# Altium schematic symbol library MCU_Microchip_AVR.SchLib: 19 symbols
Pins are listed as number, name and electrical type; pins without a type are passive.

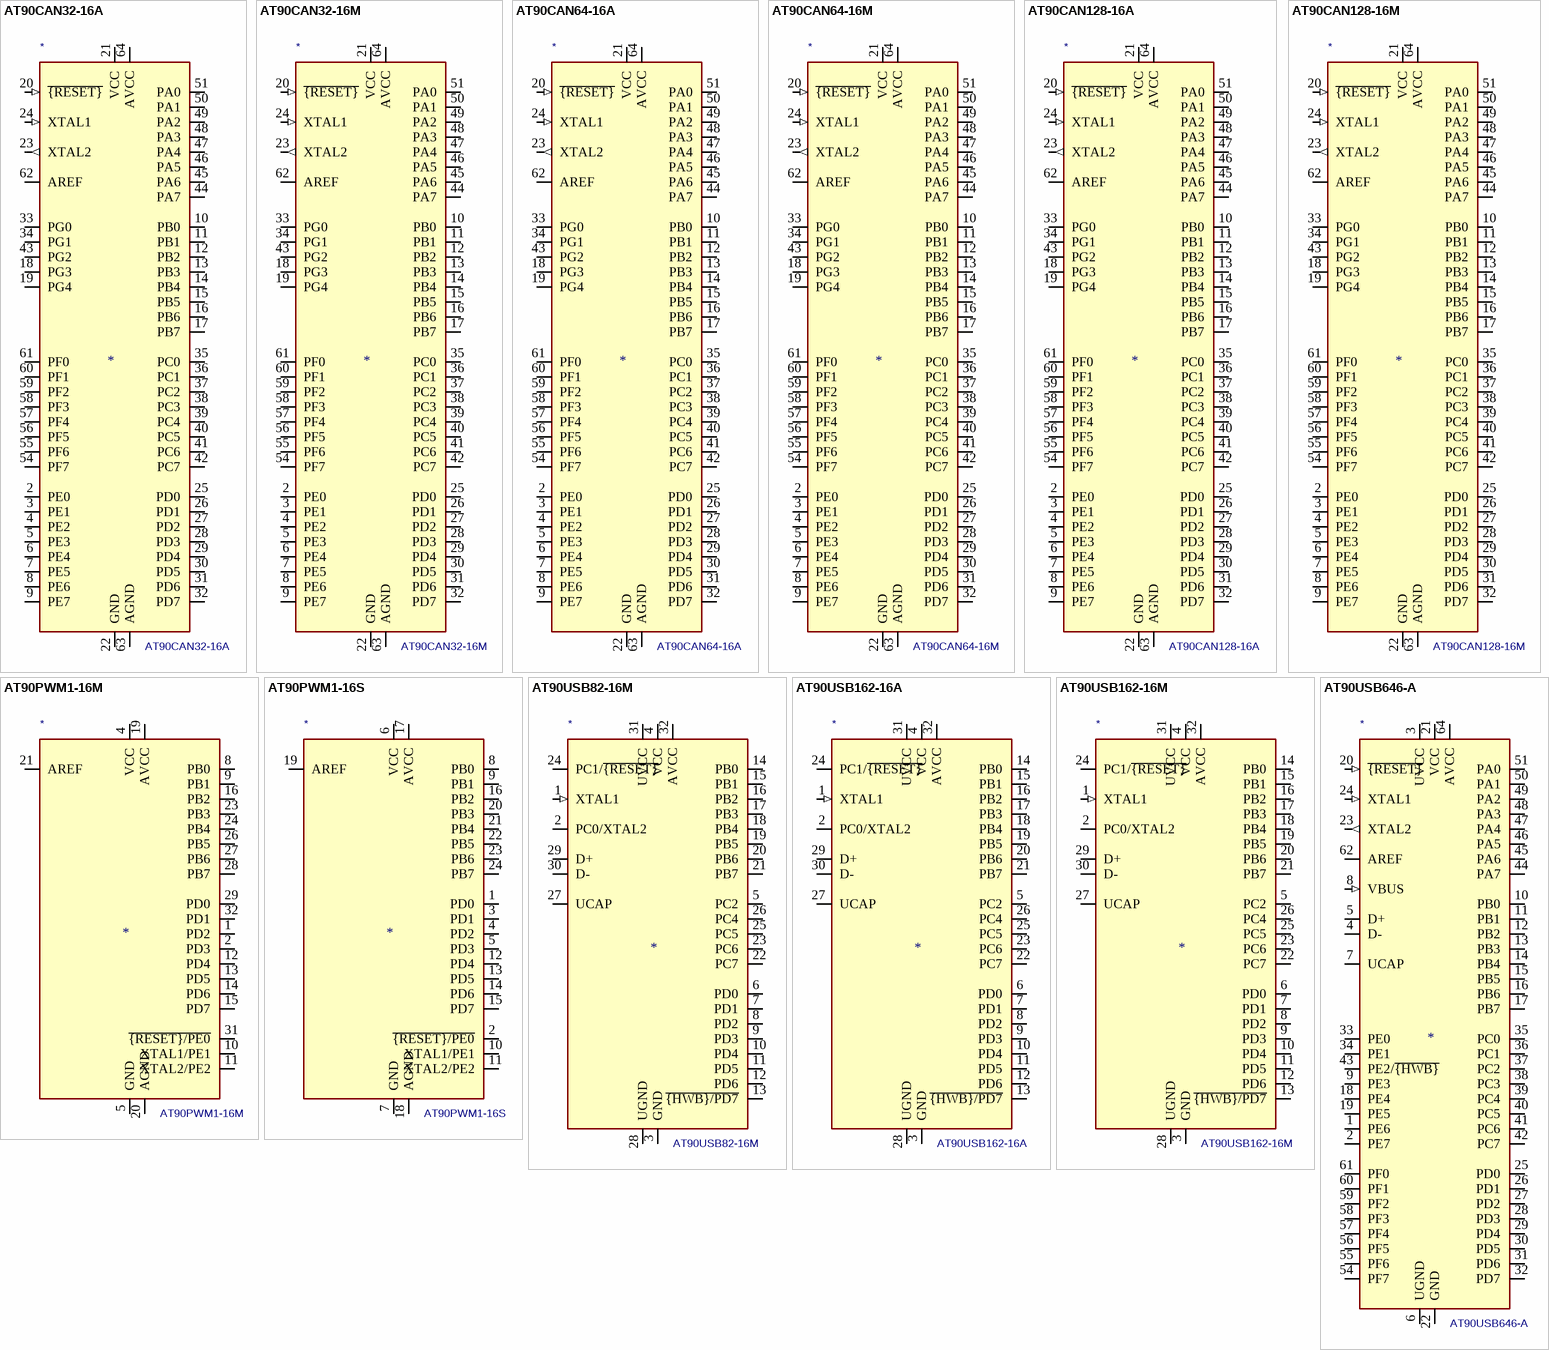
[diagram p0: symbols AT90CAN32-16A to AT90USB646-A]

## AT90CAN32-16A
designator *  value AT90CAN32-16A
ki_keywords: AVR 8bit Microcontroller MegaAVR; ki_description: 16MHz, 32kB Flash, 2kB SRAM, 1kB EEPROM, JTAG, CAN, TQFP-64; ki_fp_filters: TQFP*14x14mm*P0.8mm*; Footprint: Package_QFP:TQFP-64_14x14mm_P0.8mm; Supplier: http://ww1.microchip.com/downloads/en/DeviceDoc/doc7679.pdf
footprint TQFP-64_14x14mm_P0.8mm
pins: 1 NC (in) hidden, 2 PE0 (io), 3 PE1 (io), 4 PE2 (io), 5 PE3 (io), 6 PE4 (io), 7 PE5 (io), 8 PE6 (io), 9 PE7 (io), 10 PB0 (io), 11 PB1 (io), 12 PB2 (io), 13 PB3 (io), 14 PB4 (io), 15 PB5 (io), 16 PB6 (io), 17 PB7 (io), 18 PG3 (io), 19 PG4 (io), 20 ~{{RESET}} (in), 21 VCC (power), 22 GND (power), 23 XTAL2 (out), 24 XTAL1 (in), 25 PD0 (io), 26 PD1 (io), 27 PD2 (io), 28 PD3 (io), 29 PD4 (io), 30 PD5 (io), 31 PD6 (io), 32 PD7 (io), 33 PG0 (io), 34 PG1 (io), 35 PC0 (io), 36 PC1 (io), 37 PC2 (io), 38 PC3 (io), 39 PC4 (io), 40 PC5 (io), 41 PC6 (io), 42 PC7 (io), 43 PG2 (io), 44 PA7 (io), 45 PA6 (io), 46 PA5 (io), 47 PA4 (io), 48 PA3 (io), 49 PA2 (io), 50 PA1 (io), 51 PA0 (io), 52 VCC hidden, 53 GND hidden, 54 PF7 (io), 55 PF6 (io), 56 PF5 (io), 57 PF4 (io), 58 PF3 (io), 59 PF2 (io), 60 PF1 (io), 61 PF0 (io), 62 AREF, 63 AGND (power), 64 AVCC (power)

## AT90CAN32-16M
designator *  value AT90CAN32-16M
ki_keywords: AVR 8bit Microcontroller MegaAVR; ki_description: 16MHz, 32kB Flash, 2kB SRAM, 1kB EEPROM, JTAG, CAN, QFN-64; ki_fp_filters: QFN*1EP*9x9mm*P0.5mm*; Footprint: Package_DFN_QFN:QFN-64-1EP_9x9mm_P0.5mm_EP7.5x7.5mm; Supplier: http://ww1.microchip.com/downloads/en/DeviceDoc/doc7679.pdf
footprint QFN-64-1EP_9x9mm_P0.5mm_EP7.5x7.5mm
pins: 1 NC (in) hidden, 2 PE0 (io), 3 PE1 (io), 4 PE2 (io), 5 PE3 (io), 6 PE4 (io), 7 PE5 (io), 8 PE6 (io), 9 PE7 (io), 10 PB0 (io), 11 PB1 (io), 12 PB2 (io), 13 PB3 (io), 14 PB4 (io), 15 PB5 (io), 16 PB6 (io), 17 PB7 (io), 18 PG3 (io), 19 PG4 (io), 20 ~{{RESET}} (in), 21 VCC (power), 22 GND (power), 23 XTAL2 (out), 24 XTAL1 (in), 25 PD0 (io), 26 PD1 (io), 27 PD2 (io), 28 PD3 (io), 29 PD4 (io), 30 PD5 (io), 31 PD6 (io), 32 PD7 (io), 33 PG0 (io), 34 PG1 (io), 35 PC0 (io), 36 PC1 (io), 37 PC2 (io), 38 PC3 (io), 39 PC4 (io), 40 PC5 (io), 41 PC6 (io), 42 PC7 (io), 43 PG2 (io), 44 PA7 (io), 45 PA6 (io), 46 PA5 (io), 47 PA4 (io), 48 PA3 (io), 49 PA2 (io), 50 PA1 (io), 51 PA0 (io), 52 VCC hidden, 53 GND hidden, 54 PF7 (io), 55 PF6 (io), 56 PF5 (io), 57 PF4 (io), 58 PF3 (io), 59 PF2 (io), 60 PF1 (io), 61 PF0 (io), 62 AREF, 63 AGND (power), 64 AVCC (power), 65 GND hidden

## AT90CAN64-16A
designator *  value AT90CAN64-16A
ki_keywords: AVR 8bit Microcontroller MegaAVR; ki_description: 16MHz, 64kB Flash, 4kB SRAM, 2kB EEPROM, JTAG, CAN, TQFP-64; ki_fp_filters: TQFP*14x14mm*P0.8mm*; Footprint: Package_QFP:TQFP-64_14x14mm_P0.8mm; Supplier: http://ww1.microchip.com/downloads/en/DeviceDoc/doc7679.pdf
footprint TQFP-64_14x14mm_P0.8mm
pins: 1 NC (in) hidden, 2 PE0 (io), 3 PE1 (io), 4 PE2 (io), 5 PE3 (io), 6 PE4 (io), 7 PE5 (io), 8 PE6 (io), 9 PE7 (io), 10 PB0 (io), 11 PB1 (io), 12 PB2 (io), 13 PB3 (io), 14 PB4 (io), 15 PB5 (io), 16 PB6 (io), 17 PB7 (io), 18 PG3 (io), 19 PG4 (io), 20 ~{{RESET}} (in), 21 VCC (power), 22 GND (power), 23 XTAL2 (out), 24 XTAL1 (in), 25 PD0 (io), 26 PD1 (io), 27 PD2 (io), 28 PD3 (io), 29 PD4 (io), 30 PD5 (io), 31 PD6 (io), 32 PD7 (io), 33 PG0 (io), 34 PG1 (io), 35 PC0 (io), 36 PC1 (io), 37 PC2 (io), 38 PC3 (io), 39 PC4 (io), 40 PC5 (io), 41 PC6 (io), 42 PC7 (io), 43 PG2 (io), 44 PA7 (io), 45 PA6 (io), 46 PA5 (io), 47 PA4 (io), 48 PA3 (io), 49 PA2 (io), 50 PA1 (io), 51 PA0 (io), 52 VCC hidden, 53 GND hidden, 54 PF7 (io), 55 PF6 (io), 56 PF5 (io), 57 PF4 (io), 58 PF3 (io), 59 PF2 (io), 60 PF1 (io), 61 PF0 (io), 62 AREF, 63 AGND (power), 64 AVCC (power)

## AT90CAN64-16M
designator *  value AT90CAN64-16M
ki_keywords: AVR 8bit Microcontroller MegaAVR; ki_description: 16MHz, 64kB Flash, 4kB SRAM, 2kB EEPROM, JTAG, CAN, QFN-64; ki_fp_filters: QFN*1EP*9x9mm*P0.5mm*; Footprint: Package_DFN_QFN:QFN-64-1EP_9x9mm_P0.5mm_EP7.5x7.5mm; Supplier: http://ww1.microchip.com/downloads/en/DeviceDoc/doc7679.pdf
footprint QFN-64-1EP_9x9mm_P0.5mm_EP7.5x7.5mm
pins: 1 NC (in) hidden, 2 PE0 (io), 3 PE1 (io), 4 PE2 (io), 5 PE3 (io), 6 PE4 (io), 7 PE5 (io), 8 PE6 (io), 9 PE7 (io), 10 PB0 (io), 11 PB1 (io), 12 PB2 (io), 13 PB3 (io), 14 PB4 (io), 15 PB5 (io), 16 PB6 (io), 17 PB7 (io), 18 PG3 (io), 19 PG4 (io), 20 ~{{RESET}} (in), 21 VCC (power), 22 GND (power), 23 XTAL2 (out), 24 XTAL1 (in), 25 PD0 (io), 26 PD1 (io), 27 PD2 (io), 28 PD3 (io), 29 PD4 (io), 30 PD5 (io), 31 PD6 (io), 32 PD7 (io), 33 PG0 (io), 34 PG1 (io), 35 PC0 (io), 36 PC1 (io), 37 PC2 (io), 38 PC3 (io), 39 PC4 (io), 40 PC5 (io), 41 PC6 (io), 42 PC7 (io), 43 PG2 (io), 44 PA7 (io), 45 PA6 (io), 46 PA5 (io), 47 PA4 (io), 48 PA3 (io), 49 PA2 (io), 50 PA1 (io), 51 PA0 (io), 52 VCC hidden, 53 GND hidden, 54 PF7 (io), 55 PF6 (io), 56 PF5 (io), 57 PF4 (io), 58 PF3 (io), 59 PF2 (io), 60 PF1 (io), 61 PF0 (io), 62 AREF, 63 AGND (power), 64 AVCC (power), 65 GND hidden

## AT90CAN128-16A
designator *  value AT90CAN128-16A
ki_keywords: AVR 8bit Microcontroller MegaAVR; ki_description: 16MHz, 128kB Flash, 4kB SRAM, 4kB EEPROM, JTAG, CAN, TQFP-64; ki_fp_filters: TQFP*14x14mm*P0.8mm*; Footprint: Package_QFP:TQFP-64_14x14mm_P0.8mm; Supplier: http://ww1.microchip.com/downloads/en/DeviceDoc/doc7679.pdf
footprint TQFP-64_14x14mm_P0.8mm
pins: 1 NC (in) hidden, 2 PE0 (io), 3 PE1 (io), 4 PE2 (io), 5 PE3 (io), 6 PE4 (io), 7 PE5 (io), 8 PE6 (io), 9 PE7 (io), 10 PB0 (io), 11 PB1 (io), 12 PB2 (io), 13 PB3 (io), 14 PB4 (io), 15 PB5 (io), 16 PB6 (io), 17 PB7 (io), 18 PG3 (io), 19 PG4 (io), 20 ~{{RESET}} (in), 21 VCC (power), 22 GND (power), 23 XTAL2 (out), 24 XTAL1 (in), 25 PD0 (io), 26 PD1 (io), 27 PD2 (io), 28 PD3 (io), 29 PD4 (io), 30 PD5 (io), 31 PD6 (io), 32 PD7 (io), 33 PG0 (io), 34 PG1 (io), 35 PC0 (io), 36 PC1 (io), 37 PC2 (io), 38 PC3 (io), 39 PC4 (io), 40 PC5 (io), 41 PC6 (io), 42 PC7 (io), 43 PG2 (io), 44 PA7 (io), 45 PA6 (io), 46 PA5 (io), 47 PA4 (io), 48 PA3 (io), 49 PA2 (io), 50 PA1 (io), 51 PA0 (io), 52 VCC hidden, 53 GND hidden, 54 PF7 (io), 55 PF6 (io), 56 PF5 (io), 57 PF4 (io), 58 PF3 (io), 59 PF2 (io), 60 PF1 (io), 61 PF0 (io), 62 AREF, 63 AGND (power), 64 AVCC (power)

## AT90CAN128-16M
designator *  value AT90CAN128-16M
ki_keywords: AVR 8bit Microcontroller MegaAVR; ki_description: 16MHz, 128kB Flash, 4kB SRAM, 4kB EEPROM, JTAG, CAN, QFN-64; ki_fp_filters: QFN*1EP*9x9mm*P0.5mm*; Footprint: Package_DFN_QFN:QFN-64-1EP_9x9mm_P0.5mm_EP7.5x7.5mm; Supplier: http://ww1.microchip.com/downloads/en/DeviceDoc/doc7679.pdf
footprint QFN-64-1EP_9x9mm_P0.5mm_EP7.5x7.5mm
pins: 1 NC (in) hidden, 2 PE0 (io), 3 PE1 (io), 4 PE2 (io), 5 PE3 (io), 6 PE4 (io), 7 PE5 (io), 8 PE6 (io), 9 PE7 (io), 10 PB0 (io), 11 PB1 (io), 12 PB2 (io), 13 PB3 (io), 14 PB4 (io), 15 PB5 (io), 16 PB6 (io), 17 PB7 (io), 18 PG3 (io), 19 PG4 (io), 20 ~{{RESET}} (in), 21 VCC (power), 22 GND (power), 23 XTAL2 (out), 24 XTAL1 (in), 25 PD0 (io), 26 PD1 (io), 27 PD2 (io), 28 PD3 (io), 29 PD4 (io), 30 PD5 (io), 31 PD6 (io), 32 PD7 (io), 33 PG0 (io), 34 PG1 (io), 35 PC0 (io), 36 PC1 (io), 37 PC2 (io), 38 PC3 (io), 39 PC4 (io), 40 PC5 (io), 41 PC6 (io), 42 PC7 (io), 43 PG2 (io), 44 PA7 (io), 45 PA6 (io), 46 PA5 (io), 47 PA4 (io), 48 PA3 (io), 49 PA2 (io), 50 PA1 (io), 51 PA0 (io), 52 VCC hidden, 53 GND hidden, 54 PF7 (io), 55 PF6 (io), 56 PF5 (io), 57 PF4 (io), 58 PF3 (io), 59 PF2 (io), 60 PF1 (io), 61 PF0 (io), 62 AREF, 63 AGND (power), 64 AVCC (power), 65 GND hidden

## AT90PWM1-16M
designator *  value AT90PWM1-16M
ki_keywords: AVR 8bit Microcontroller LightingAVR PWM; ki_description: 16MHz, 8kB Flash, 512B SRAM, 512B EEPROM, QFN-32; ki_fp_filters: QFN*1EP*7x7mm*P0.65mm*; Footprint: Package_DFN_QFN:QFN-32-1EP_7x7mm_P0.65mm_EP4.65x4.65mm; Supplier: http://ww1.microchip.com/downloads/en/DeviceDoc/doc4378.pdf
footprint QFN-32-1EP_7x7mm_P0.65mm_EP4.65x4.65mm
pins: 1 PD2 (io), 2 PD3 (io), 3 NC (in) hidden, 4 VCC (power), 5 GND (power), 6 NC (in) hidden, 7 NC (in) hidden, 8 PB0 (io), 9 PB1 (io), 10 XTAL1/PE1 (io), 11 XTAL2/PE2 (io), 12 PD4 (io), 13 PD5 (io), 14 PD6 (io), 15 PD7 (io), 16 PB2 (io), 17 NC (in) hidden, 18 NC (in) hidden, 19 AVCC (power), 20 AGND (power), 21 AREF, 22 NC (in) hidden, 23 PB3 (io), 24 PB4 (io), 25 NC (in) hidden, 26 PB5 (io), 27 PB6 (io), 28 PB7 (io), 29 PD0 (io), 30 NC (in) hidden, 31 ~{{RESET}/PE0} (io), 32 PD1 (io), 33 GND hidden

## AT90PWM1-16S
designator *  value AT90PWM1-16S
ki_keywords: AVR 8bit Microcontroller LightingAVR PWM; ki_description: 16MHz, 8kB Flash, 512B SRAM, 512B EEPROM, SOIC-24; ki_fp_filters: SOIC*7.5x15.4mm*P1.27mm*; Footprint: Package_SO:SOIC-24W_7.5x15.4mm_P1.27mm; Supplier: http://ww1.microchip.com/downloads/en/DeviceDoc/doc4378.pdf
footprint SOIC-24W_7.5x15.4mm_P1.27mm
pins: 1 PD0 (io), 2 ~{{RESET}/PE0} (io), 3 PD1 (io), 4 PD2 (io), 5 PD3 (io), 6 VCC (power), 7 GND (power), 8 PB0 (io), 9 PB1 (io), 10 XTAL1/PE1 (io), 11 XTAL2/PE2 (io), 12 PD4 (io), 13 PD5 (io), 14 PD6 (io), 15 PD7 (io), 16 PB2 (io), 17 AVCC (power), 18 AGND (power), 19 AREF, 20 PB3 (io), 21 PB4 (io), 22 PB5 (io), 23 PB6 (io), 24 PB7 (io)

## AT90USB82-16M
designator *  value AT90USB82-16M
ki_keywords: AVR 8bit Microcontroller USB; ki_description: 16MHz, 8kB Flash, 512B SRAM, 512B EEPROM, USB 2.0, QFN-32; ki_fp_filters: QFN*1EP*5x5mm*P0.5mm*; Footprint: Package_DFN_QFN:QFN-32-1EP_5x5mm_P0.5mm_EP3.6x3.6mm; Supplier: http://ww1.microchip.com/downloads/en/DeviceDoc/doc7707.pdf
footprint QFN-32-1EP_5x5mm_P0.5mm_EP3.6x3.6mm
pins: 1 XTAL1 (in), 2 PC0/XTAL2 (io), 3 GND (power), 4 VCC (power), 5 PC2 (io), 6 PD0 (io), 7 PD1 (io), 8 PD2 (io), 9 PD3 (io), 10 PD4 (io), 11 PD5 (io), 12 PD6 (io), 13 ~{{HWB}/PD7} (io), 14 PB0 (io), 15 PB1 (io), 16 PB2 (io), 17 PB3 (io), 18 PB4 (io), 19 PB5 (io), 20 PB6 (io), 21 PB7 (io), 22 PC7 (io), 23 PC6 (io), 24 PC1/~{{RESET}} (io), 25 PC5 (io), 26 PC4 (io), 27 UCAP, 28 UGND (power), 29 D+ (io), 30 D- (io), 31 UVCC (power), 32 AVCC (power), 33 GND hidden

## AT90USB162-16A
designator *  value AT90USB162-16A
ki_keywords: AVR 8bit Microcontroller USB; ki_description: 16MHz, 16kB Flash, 512B SRAM, 512B EEPROM, USB 2.0, TQFP-32; ki_fp_filters: TQFP*7x7mm*P0.8mm*; Footprint: Package_QFP:TQFP-32_7x7mm_P0.8mm; Supplier: http://ww1.microchip.com/downloads/en/DeviceDoc/doc7707.pdf
footprint TQFP-32_7x7mm_P0.8mm
pins: 1 XTAL1 (in), 2 PC0/XTAL2 (io), 3 GND (power), 4 VCC (power), 5 PC2 (io), 6 PD0 (io), 7 PD1 (io), 8 PD2 (io), 9 PD3 (io), 10 PD4 (io), 11 PD5 (io), 12 PD6 (io), 13 ~{{HWB}/PD7} (io), 14 PB0 (io), 15 PB1 (io), 16 PB2 (io), 17 PB3 (io), 18 PB4 (io), 19 PB5 (io), 20 PB6 (io), 21 PB7 (io), 22 PC7 (io), 23 PC6 (io), 24 PC1/~{{RESET}} (io), 25 PC5 (io), 26 PC4 (io), 27 UCAP, 28 UGND (power), 29 D+ (io), 30 D- (io), 31 UVCC (power), 32 AVCC (power)

## AT90USB162-16M
designator *  value AT90USB162-16M
ki_keywords: AVR 8bit Microcontroller USB; ki_description: 16MHz, 16kB Flash, 512B SRAM, 512B EEPROM, USB 2.0, QFN-32; ki_fp_filters: QFN*1EP*5x5mm*P0.5mm*; Footprint: Package_DFN_QFN:QFN-32-1EP_5x5mm_P0.5mm_EP3.6x3.6mm; Supplier: http://ww1.microchip.com/downloads/en/DeviceDoc/doc7707.pdf
footprint QFN-32-1EP_5x5mm_P0.5mm_EP3.6x3.6mm
pins: 1 XTAL1 (in), 2 PC0/XTAL2 (io), 3 GND (power), 4 VCC (power), 5 PC2 (io), 6 PD0 (io), 7 PD1 (io), 8 PD2 (io), 9 PD3 (io), 10 PD4 (io), 11 PD5 (io), 12 PD6 (io), 13 ~{{HWB}/PD7} (io), 14 PB0 (io), 15 PB1 (io), 16 PB2 (io), 17 PB3 (io), 18 PB4 (io), 19 PB5 (io), 20 PB6 (io), 21 PB7 (io), 22 PC7 (io), 23 PC6 (io), 24 PC1/~{{RESET}} (io), 25 PC5 (io), 26 PC4 (io), 27 UCAP, 28 UGND (power), 29 D+ (io), 30 D- (io), 31 UVCC (power), 32 AVCC (power), 33 GND hidden

## AT90USB646-A
designator *  value AT90USB646-A
ki_keywords: AVR 8bit Microcontroller USB; ki_description: 16MHz, 64kB Flash, 4kB SRAM, 2kB EEPROM, USB 2.0, TQFP-64; ki_fp_filters: TQFP*14x14mm*P0.8mm*; Footprint: Package_QFP:TQFP-64_14x14mm_P0.8mm; Supplier: http://ww1.microchip.com/downloads/en/DeviceDoc/doc7593.pdf
footprint TQFP-64_14x14mm_P0.8mm
pins: 1 PE6 (io), 2 PE7 (io), 3 UVCC (power), 4 D- (io), 5 D+ (io), 6 UGND (power), 7 UCAP, 8 VBUS (in), 9 PE3 (io), 10 PB0 (io), 11 PB1 (io), 12 PB2 (io), 13 PB3 (io), 14 PB4 (io), 15 PB5 (io), 16 PB6 (io), 17 PB7 (io), 18 PE4 (io), 19 PE5 (io), 20 ~{{RESET}} (in), 21 VCC (power), 22 GND (power), 23 XTAL2 (out), 24 XTAL1 (in), 25 PD0 (io), 26 PD1 (io), 27 PD2 (io), 28 PD3 (io), 29 PD4 (io), 30 PD5 (io), 31 PD6 (io), 32 PD7 (io), 33 PE0 (io), 34 PE1 (io), 35 PC0 (io), 36 PC1 (io), 37 PC2 (io), 38 PC3 (io), 39 PC4 (io), 40 PC5 (io), 41 PC6 (io), 42 PC7 (io), 43 PE2/~{{HWB}} (io), 44 PA7 (io), 45 PA6 (io), 46 PA5 (io), 47 PA4 (io), 48 PA3 (io), 49 PA2 (io), 50 PA1 (io), 51 PA0 (io), 52 VCC hidden, 53 GND hidden, 54 PF7 (io), 55 PF6 (io), 56 PF5 (io), 57 PF4 (io), 58 PF3 (io), 59 PF2 (io), 60 PF1 (io), 61 PF0 (io), 62 AREF, 63 GND hidden, 64 AVCC (power)

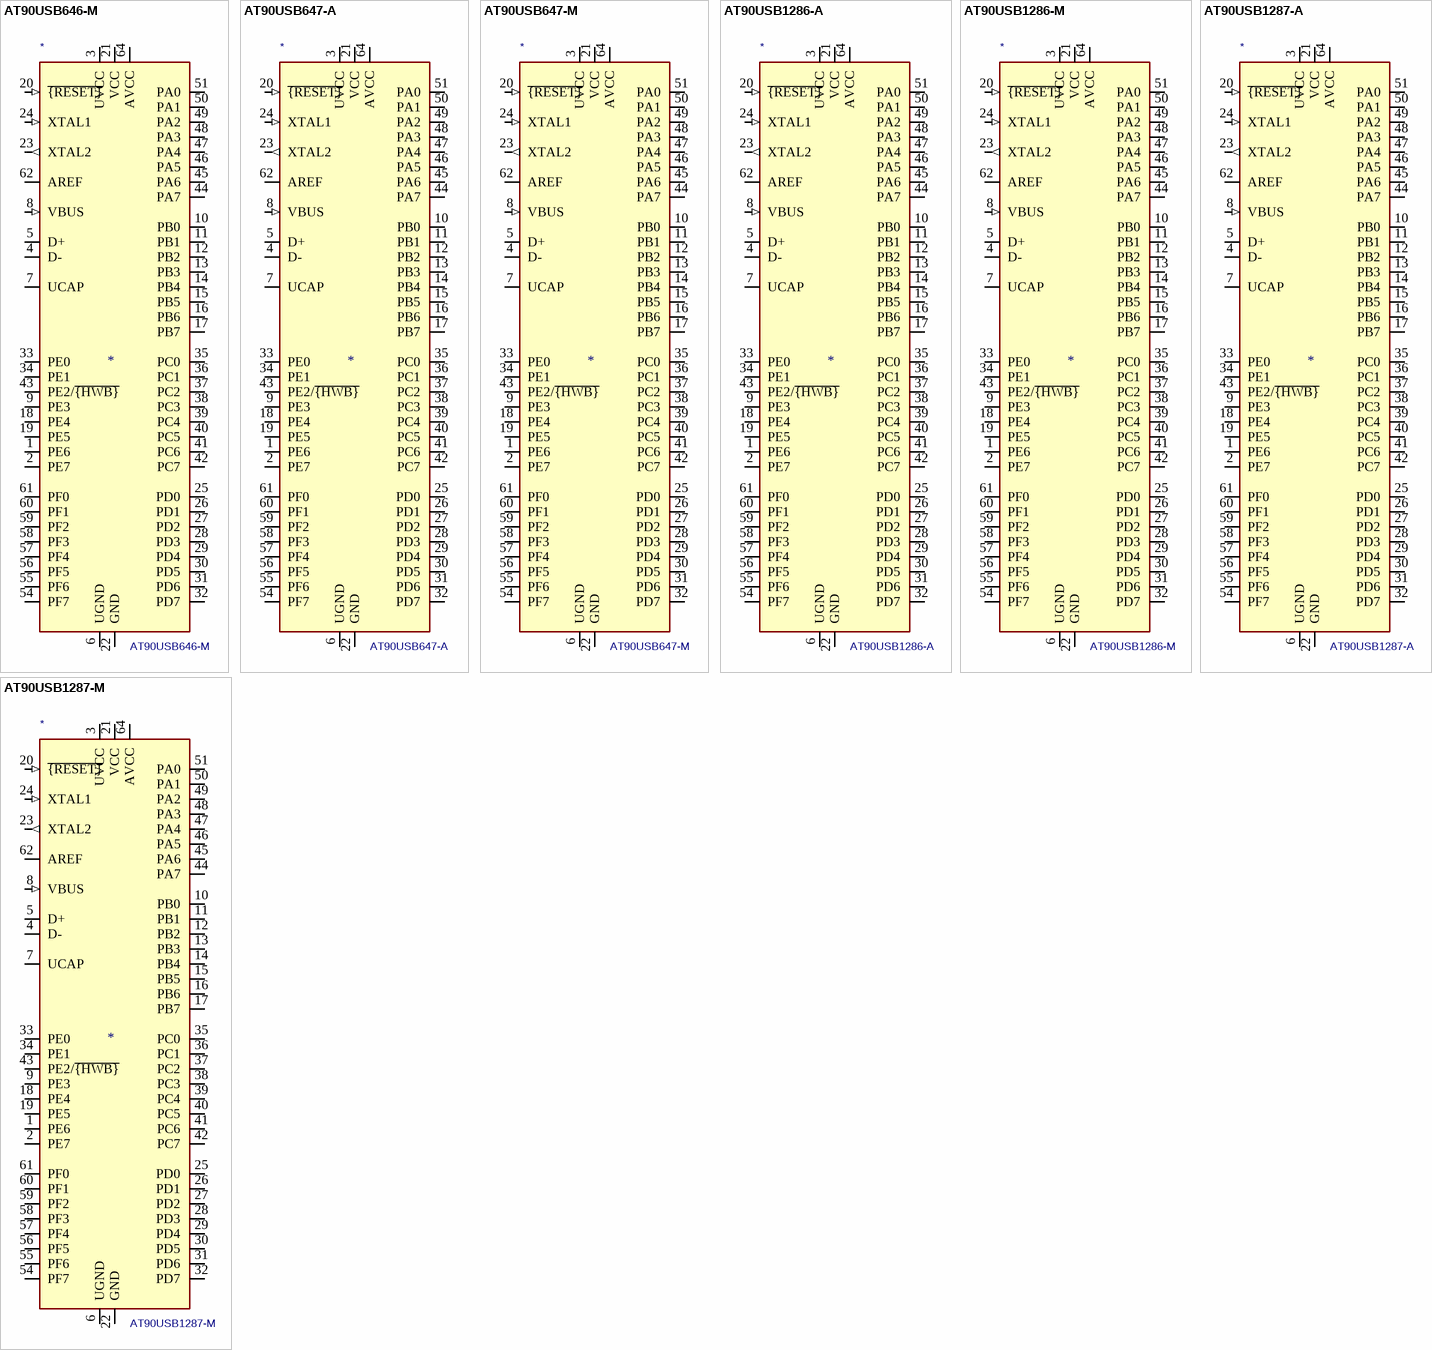
[diagram p1: symbols AT90USB646-M to AT90USB1287-M]

## AT90USB646-M
designator *  value AT90USB646-M
ki_keywords: AVR 8bit Microcontroller USB; ki_description: 16MHz, 64kB Flash, 4kB SRAM, 2kB EEPROM, USB 2.0, QFN-64; ki_fp_filters: QFN*1EP*9x9mm*P0.5mm*; Footprint: Package_DFN_QFN:QFN-64-1EP_9x9mm_P0.5mm_EP7.5x7.5mm; Supplier: http://ww1.microchip.com/downloads/en/DeviceDoc/doc7593.pdf
footprint QFN-64-1EP_9x9mm_P0.5mm_EP7.5x7.5mm
pins: 1 PE6 (io), 2 PE7 (io), 3 UVCC (power), 4 D- (io), 5 D+ (io), 6 UGND (power), 7 UCAP, 8 VBUS (in), 9 PE3 (io), 10 PB0 (io), 11 PB1 (io), 12 PB2 (io), 13 PB3 (io), 14 PB4 (io), 15 PB5 (io), 16 PB6 (io), 17 PB7 (io), 18 PE4 (io), 19 PE5 (io), 20 ~{{RESET}} (in), 21 VCC (power), 22 GND (power), 23 XTAL2 (out), 24 XTAL1 (in), 25 PD0 (io), 26 PD1 (io), 27 PD2 (io), 28 PD3 (io), 29 PD4 (io), 30 PD5 (io), 31 PD6 (io), 32 PD7 (io), 33 PE0 (io), 34 PE1 (io), 35 PC0 (io), 36 PC1 (io), 37 PC2 (io), 38 PC3 (io), 39 PC4 (io), 40 PC5 (io), 41 PC6 (io), 42 PC7 (io), 43 PE2/~{{HWB}} (io), 44 PA7 (io), 45 PA6 (io), 46 PA5 (io), 47 PA4 (io), 48 PA3 (io), 49 PA2 (io), 50 PA1 (io), 51 PA0 (io), 52 VCC hidden, 53 GND hidden, 54 PF7 (io), 55 PF6 (io), 56 PF5 (io), 57 PF4 (io), 58 PF3 (io), 59 PF2 (io), 60 PF1 (io), 61 PF0 (io), 62 AREF, 63 GND hidden, 64 AVCC (power), 65 GND hidden

## AT90USB647-A
designator *  value AT90USB647-A
ki_keywords: AVR 8bit Microcontroller USB; ki_description: 16MHz, 64kB Flash, 4kB SRAM, 2kB EEPROM, USB 2.0 OTG, TQFP-64; ki_fp_filters: TQFP*14x14mm*P0.8mm*; Footprint: Package_QFP:TQFP-64_14x14mm_P0.8mm; Supplier: http://ww1.microchip.com/downloads/en/DeviceDoc/doc7593.pdf
footprint TQFP-64_14x14mm_P0.8mm
pins: 1 PE6 (io), 2 PE7 (io), 3 UVCC (power), 4 D- (io), 5 D+ (io), 6 UGND (power), 7 UCAP, 8 VBUS (in), 9 PE3 (io), 10 PB0 (io), 11 PB1 (io), 12 PB2 (io), 13 PB3 (io), 14 PB4 (io), 15 PB5 (io), 16 PB6 (io), 17 PB7 (io), 18 PE4 (io), 19 PE5 (io), 20 ~{{RESET}} (in), 21 VCC (power), 22 GND (power), 23 XTAL2 (out), 24 XTAL1 (in), 25 PD0 (io), 26 PD1 (io), 27 PD2 (io), 28 PD3 (io), 29 PD4 (io), 30 PD5 (io), 31 PD6 (io), 32 PD7 (io), 33 PE0 (io), 34 PE1 (io), 35 PC0 (io), 36 PC1 (io), 37 PC2 (io), 38 PC3 (io), 39 PC4 (io), 40 PC5 (io), 41 PC6 (io), 42 PC7 (io), 43 PE2/~{{HWB}} (io), 44 PA7 (io), 45 PA6 (io), 46 PA5 (io), 47 PA4 (io), 48 PA3 (io), 49 PA2 (io), 50 PA1 (io), 51 PA0 (io), 52 VCC hidden, 53 GND hidden, 54 PF7 (io), 55 PF6 (io), 56 PF5 (io), 57 PF4 (io), 58 PF3 (io), 59 PF2 (io), 60 PF1 (io), 61 PF0 (io), 62 AREF, 63 GND hidden, 64 AVCC (power)

## AT90USB647-M
designator *  value AT90USB647-M
ki_keywords: AVR 8bit Microcontroller USB; ki_description: 16MHz, 64kB Flash, 4kB SRAM, 2kB EEPROM, USB 2.0 OTG, QFN-64; ki_fp_filters: QFN*1EP*9x9mm*P0.5mm*; Footprint: Package_DFN_QFN:QFN-64-1EP_9x9mm_P0.5mm_EP7.5x7.5mm; Supplier: http://ww1.microchip.com/downloads/en/DeviceDoc/doc7593.pdf
footprint QFN-64-1EP_9x9mm_P0.5mm_EP7.5x7.5mm
pins: 1 PE6 (io), 2 PE7 (io), 3 UVCC (power), 4 D- (io), 5 D+ (io), 6 UGND (power), 7 UCAP, 8 VBUS (in), 9 PE3 (io), 10 PB0 (io), 11 PB1 (io), 12 PB2 (io), 13 PB3 (io), 14 PB4 (io), 15 PB5 (io), 16 PB6 (io), 17 PB7 (io), 18 PE4 (io), 19 PE5 (io), 20 ~{{RESET}} (in), 21 VCC (power), 22 GND (power), 23 XTAL2 (out), 24 XTAL1 (in), 25 PD0 (io), 26 PD1 (io), 27 PD2 (io), 28 PD3 (io), 29 PD4 (io), 30 PD5 (io), 31 PD6 (io), 32 PD7 (io), 33 PE0 (io), 34 PE1 (io), 35 PC0 (io), 36 PC1 (io), 37 PC2 (io), 38 PC3 (io), 39 PC4 (io), 40 PC5 (io), 41 PC6 (io), 42 PC7 (io), 43 PE2/~{{HWB}} (io), 44 PA7 (io), 45 PA6 (io), 46 PA5 (io), 47 PA4 (io), 48 PA3 (io), 49 PA2 (io), 50 PA1 (io), 51 PA0 (io), 52 VCC hidden, 53 GND hidden, 54 PF7 (io), 55 PF6 (io), 56 PF5 (io), 57 PF4 (io), 58 PF3 (io), 59 PF2 (io), 60 PF1 (io), 61 PF0 (io), 62 AREF, 63 GND hidden, 64 AVCC (power), 65 GND hidden

## AT90USB1286-A
designator *  value AT90USB1286-A
ki_keywords: AVR 8bit Microcontroller USB; ki_description: 16MHz, 128kB Flash, 8kB SRAM, 4kB EEPROM, USB 2.0, TQFP-64; ki_fp_filters: TQFP*14x14mm*P0.8mm*; Footprint: Package_QFP:TQFP-64_14x14mm_P0.8mm; Supplier: http://ww1.microchip.com/downloads/en/DeviceDoc/doc7593.pdf
footprint TQFP-64_14x14mm_P0.8mm
pins: 1 PE6 (io), 2 PE7 (io), 3 UVCC (power), 4 D- (io), 5 D+ (io), 6 UGND (power), 7 UCAP, 8 VBUS (in), 9 PE3 (io), 10 PB0 (io), 11 PB1 (io), 12 PB2 (io), 13 PB3 (io), 14 PB4 (io), 15 PB5 (io), 16 PB6 (io), 17 PB7 (io), 18 PE4 (io), 19 PE5 (io), 20 ~{{RESET}} (in), 21 VCC (power), 22 GND (power), 23 XTAL2 (out), 24 XTAL1 (in), 25 PD0 (io), 26 PD1 (io), 27 PD2 (io), 28 PD3 (io), 29 PD4 (io), 30 PD5 (io), 31 PD6 (io), 32 PD7 (io), 33 PE0 (io), 34 PE1 (io), 35 PC0 (io), 36 PC1 (io), 37 PC2 (io), 38 PC3 (io), 39 PC4 (io), 40 PC5 (io), 41 PC6 (io), 42 PC7 (io), 43 PE2/~{{HWB}} (io), 44 PA7 (io), 45 PA6 (io), 46 PA5 (io), 47 PA4 (io), 48 PA3 (io), 49 PA2 (io), 50 PA1 (io), 51 PA0 (io), 52 VCC hidden, 53 GND hidden, 54 PF7 (io), 55 PF6 (io), 56 PF5 (io), 57 PF4 (io), 58 PF3 (io), 59 PF2 (io), 60 PF1 (io), 61 PF0 (io), 62 AREF, 63 GND hidden, 64 AVCC (power)

## AT90USB1286-M
designator *  value AT90USB1286-M
ki_keywords: AVR 8bit Microcontroller USB; ki_description: 16MHz, 128kB Flash, 8kB SRAM, 4kB EEPROM, USB 2.0, QFN-64; ki_fp_filters: QFN*1EP*9x9mm*P0.5mm*; Footprint: Package_DFN_QFN:QFN-64-1EP_9x9mm_P0.5mm_EP7.5x7.5mm; Supplier: http://ww1.microchip.com/downloads/en/DeviceDoc/doc7593.pdf
footprint QFN-64-1EP_9x9mm_P0.5mm_EP7.5x7.5mm
pins: 1 PE6 (io), 2 PE7 (io), 3 UVCC (power), 4 D- (io), 5 D+ (io), 6 UGND (power), 7 UCAP, 8 VBUS (in), 9 PE3 (io), 10 PB0 (io), 11 PB1 (io), 12 PB2 (io), 13 PB3 (io), 14 PB4 (io), 15 PB5 (io), 16 PB6 (io), 17 PB7 (io), 18 PE4 (io), 19 PE5 (io), 20 ~{{RESET}} (in), 21 VCC (power), 22 GND (power), 23 XTAL2 (out), 24 XTAL1 (in), 25 PD0 (io), 26 PD1 (io), 27 PD2 (io), 28 PD3 (io), 29 PD4 (io), 30 PD5 (io), 31 PD6 (io), 32 PD7 (io), 33 PE0 (io), 34 PE1 (io), 35 PC0 (io), 36 PC1 (io), 37 PC2 (io), 38 PC3 (io), 39 PC4 (io), 40 PC5 (io), 41 PC6 (io), 42 PC7 (io), 43 PE2/~{{HWB}} (io), 44 PA7 (io), 45 PA6 (io), 46 PA5 (io), 47 PA4 (io), 48 PA3 (io), 49 PA2 (io), 50 PA1 (io), 51 PA0 (io), 52 VCC hidden, 53 GND hidden, 54 PF7 (io), 55 PF6 (io), 56 PF5 (io), 57 PF4 (io), 58 PF3 (io), 59 PF2 (io), 60 PF1 (io), 61 PF0 (io), 62 AREF, 63 GND hidden, 64 AVCC (power), 65 GND hidden

## AT90USB1287-A
designator *  value AT90USB1287-A
ki_keywords: AVR 8bit Microcontroller USB; ki_description: 16MHz, 128kB Flash, 8kB SRAM, 4kB EEPROM, USB 2.0 OTG, TQFP-64; ki_fp_filters: TQFP*14x14mm*P0.8mm*; Footprint: Package_QFP:TQFP-64_14x14mm_P0.8mm; Supplier: http://ww1.microchip.com/downloads/en/DeviceDoc/doc7593.pdf
footprint TQFP-64_14x14mm_P0.8mm
pins: 1 PE6 (io), 2 PE7 (io), 3 UVCC (power), 4 D- (io), 5 D+ (io), 6 UGND (power), 7 UCAP, 8 VBUS (in), 9 PE3 (io), 10 PB0 (io), 11 PB1 (io), 12 PB2 (io), 13 PB3 (io), 14 PB4 (io), 15 PB5 (io), 16 PB6 (io), 17 PB7 (io), 18 PE4 (io), 19 PE5 (io), 20 ~{{RESET}} (in), 21 VCC (power), 22 GND (power), 23 XTAL2 (out), 24 XTAL1 (in), 25 PD0 (io), 26 PD1 (io), 27 PD2 (io), 28 PD3 (io), 29 PD4 (io), 30 PD5 (io), 31 PD6 (io), 32 PD7 (io), 33 PE0 (io), 34 PE1 (io), 35 PC0 (io), 36 PC1 (io), 37 PC2 (io), 38 PC3 (io), 39 PC4 (io), 40 PC5 (io), 41 PC6 (io), 42 PC7 (io), 43 PE2/~{{HWB}} (io), 44 PA7 (io), 45 PA6 (io), 46 PA5 (io), 47 PA4 (io), 48 PA3 (io), 49 PA2 (io), 50 PA1 (io), 51 PA0 (io), 52 VCC hidden, 53 GND hidden, 54 PF7 (io), 55 PF6 (io), 56 PF5 (io), 57 PF4 (io), 58 PF3 (io), 59 PF2 (io), 60 PF1 (io), 61 PF0 (io), 62 AREF, 63 GND hidden, 64 AVCC (power)

## AT90USB1287-M
designator *  value AT90USB1287-M
ki_keywords: AVR 8bit Microcontroller USB; ki_description: 16MHz, 128kB Flash, 8kB SRAM, 4kB EEPROM, USB 2.0 OTG, QFN-64; ki_fp_filters: QFN*1EP*9x9mm*P0.5mm*; Footprint: Package_DFN_QFN:QFN-64-1EP_9x9mm_P0.5mm_EP7.5x7.5mm; Supplier: http://ww1.microchip.com/downloads/en/DeviceDoc/doc7593.pdf
footprint QFN-64-1EP_9x9mm_P0.5mm_EP7.5x7.5mm
pins: 1 PE6 (io), 2 PE7 (io), 3 UVCC (power), 4 D- (io), 5 D+ (io), 6 UGND (power), 7 UCAP, 8 VBUS (in), 9 PE3 (io), 10 PB0 (io), 11 PB1 (io), 12 PB2 (io), 13 PB3 (io), 14 PB4 (io), 15 PB5 (io), 16 PB6 (io), 17 PB7 (io), 18 PE4 (io), 19 PE5 (io), 20 ~{{RESET}} (in), 21 VCC (power), 22 GND (power), 23 XTAL2 (out), 24 XTAL1 (in), 25 PD0 (io), 26 PD1 (io), 27 PD2 (io), 28 PD3 (io), 29 PD4 (io), 30 PD5 (io), 31 PD6 (io), 32 PD7 (io), 33 PE0 (io), 34 PE1 (io), 35 PC0 (io), 36 PC1 (io), 37 PC2 (io), 38 PC3 (io), 39 PC4 (io), 40 PC5 (io), 41 PC6 (io), 42 PC7 (io), 43 PE2/~{{HWB}} (io), 44 PA7 (io), 45 PA6 (io), 46 PA5 (io), 47 PA4 (io), 48 PA3 (io), 49 PA2 (io), 50 PA1 (io), 51 PA0 (io), 52 VCC hidden, 53 GND hidden, 54 PF7 (io), 55 PF6 (io), 56 PF5 (io), 57 PF4 (io), 58 PF3 (io), 59 PF2 (io), 60 PF1 (io), 61 PF0 (io), 62 AREF, 63 GND hidden, 64 AVCC (power), 65 GND hidden